# Altium schematic symbol library A768MS108M1CLAS015.SchLib: 1 symbol
Pins are listed as number, name and electrical type; pins without a type are passive.

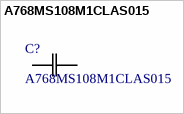
[diagram p0: symbol A768MS108M1CLAS015]

## A768MS108M1CLAS015
designator C?
Description; Manufacturer_Name: Kemet; Type: Aluminum-Polymer Capacitors; Copyright: Copyright (C) 2025 Ultra Librarian. All rights reserved.; Manufacturer_Part_Number: A768MS108M1CLAS015
footprint CAP_A768-MS_KEM
pins: 1, 2